# EAGLE library part TE0300-00 (library Eagle-library-TE0300-01)
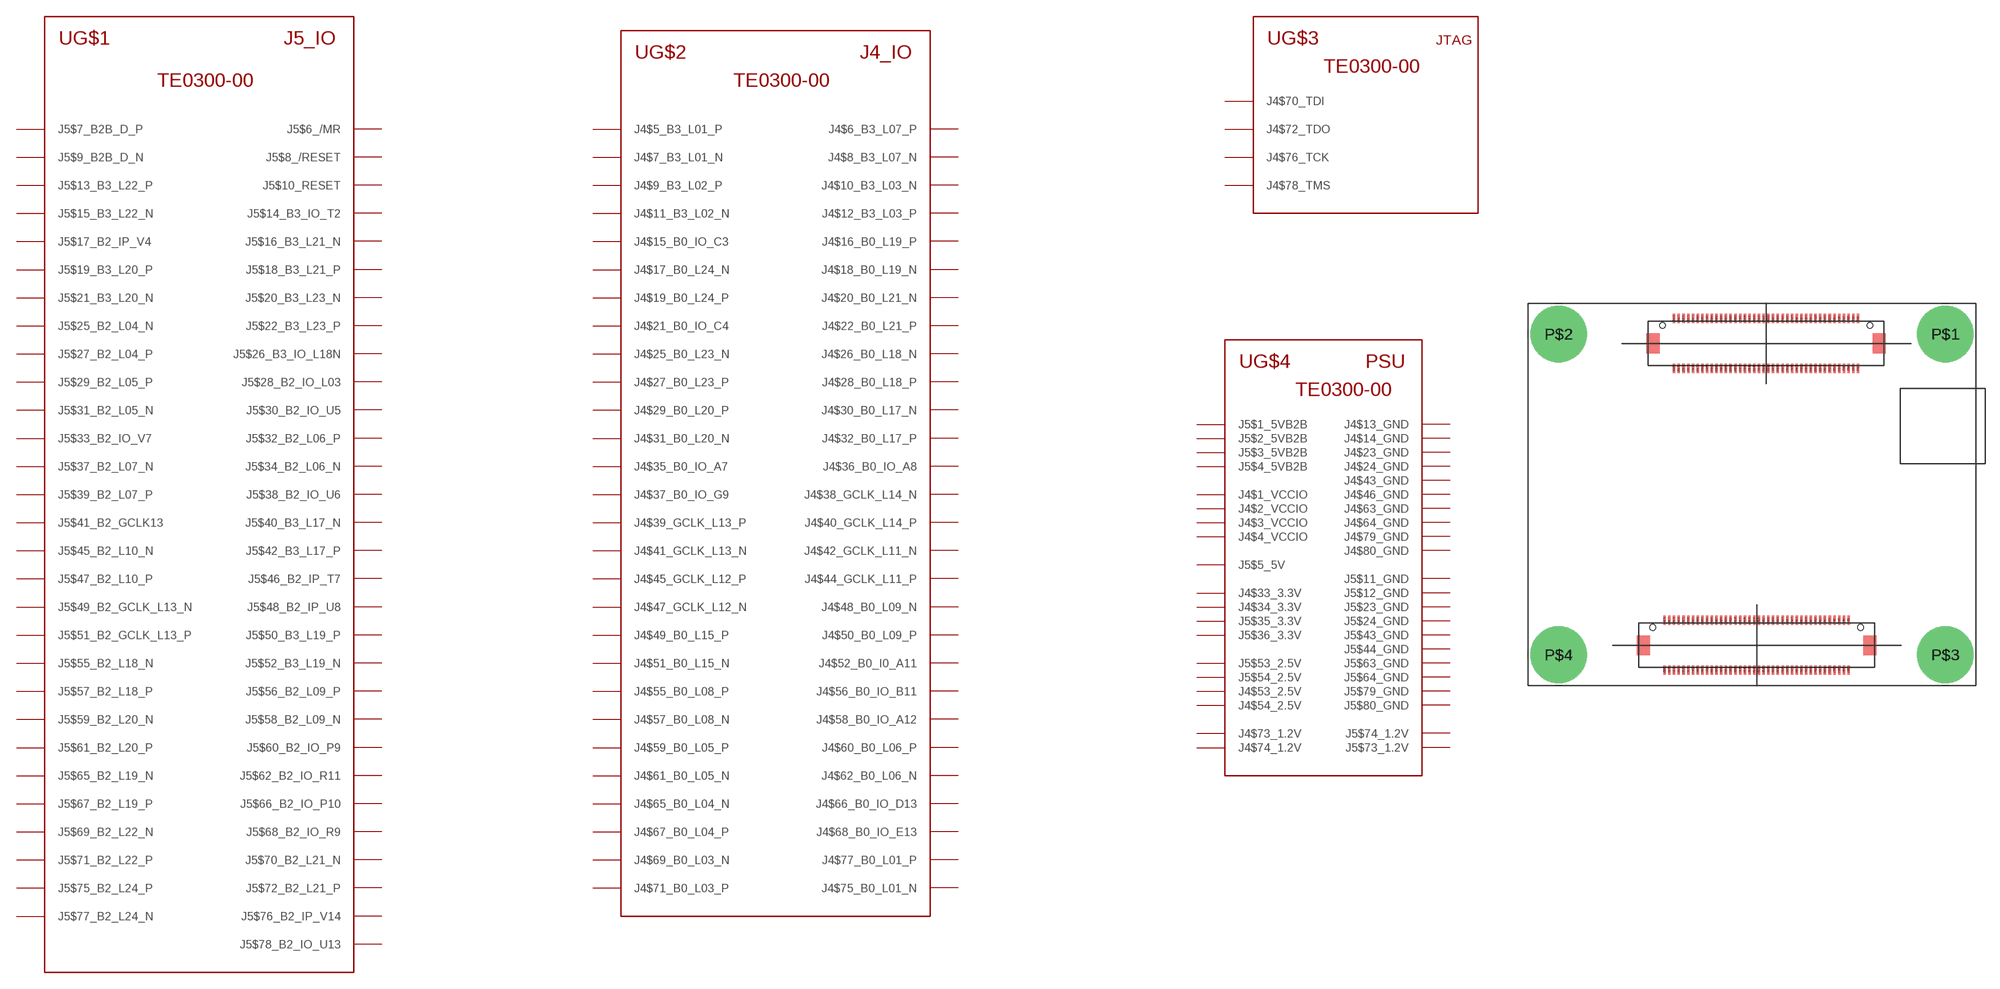
[diagram p0: symbol with the pads of INDUSTRIEMODUL; footprint INDUSTRIEMODUL]

Designator prefix -; gates G$1=INDUSTRIEMODULJ5 G$2=INDUSTRIEMOULJ4 G$3=INDUSTRIEMODUL_JTAG G$4=INDUSTRIEMODUL_PSU

## TE0300-00  [INDUSTRIEMODUL]
J4$1  G$4:J4$1_VCCIO  in
J4$2  G$4:J4$2_VCCIO  in
J4$3  G$4:J4$3_VCCIO  in
J4$4  G$4:J4$4_VCCIO  in
J4$5  G$2:J4$5_B3_L01_P
J4$6  G$2:J4$6_B3_L07_P
J4$7  G$2:J4$7_B3_L01_N
J4$8  G$2:J4$8_B3_L07_N
J4$9  G$2:J4$9_B3_L02_P
J4$10  G$2:J4$10_B3_L03_N
J4$11  G$2:J4$11_B3_L02_N
J4$12  G$2:J4$12_B3_L03_P
J4$13  G$4:J4$13_GND
J4$14  G$4:J4$14_GND
J4$15  G$2:J4$15_B0_IO_C3
J4$16  G$2:J4$16_B0_L19_P
J4$17  G$2:J4$17_B0_L24_N
J4$18  G$2:J4$18_B0_L19_N
J4$19  G$2:J4$19_B0_L24_P
J4$20  G$2:J4$20_B0_L21_N
J4$21  G$2:J4$21_B0_IO_C4
J4$22  G$2:J4$22_B0_L21_P
J4$23  G$4:J4$23_GND
J4$24  G$4:J4$24_GND
J4$25  G$2:J4$25_B0_L23_N
J4$26  G$2:J4$26_B0_L18_N
J4$27  G$2:J4$27_B0_L23_P
J4$28  G$2:J4$28_B0_L18_P
J4$29  G$2:J4$29_B0_L20_P
J4$30  G$2:J4$30_B0_L17_N
J4$31  G$2:J4$31_B0_L20_N
J4$32  G$2:J4$32_B0_L17_P
J4$33  G$4:J4$33_3.3V  out
J4$34  G$4:J4$34_3.3V  out
J4$35  G$2:J4$35_B0_IO_A7
J4$36  G$2:J4$36_B0_IO_A8
J4$37  G$2:J4$37_B0_IO_G9
J4$38  G$2:J4$38_GCLK_L14_N
J4$39  G$2:J4$39_GCLK_L13_P  in
J4$40  G$2:J4$40_GCLK_L14_P
J4$41  G$2:J4$41_GCLK_L13_N  in
J4$42  G$2:J4$42_GCLK_L11_N
J4$43  G$4:J4$43_GND
J4$44  G$2:J4$44_GCLK_L11_P
J4$45  G$2:J4$45_GCLK_L12_P
J4$46  G$4:J4$46_GND
J4$47  G$2:J4$47_GCLK_L12_N
J4$48  G$2:J4$48_B0_L09_N
J4$49  G$2:J4$49_B0_L15_P
J4$50  G$2:J4$50_B0_L09_P
J4$51  G$2:J4$51_B0_L15_N
J4$52  G$2:J4$52_B0_I0_A11
J4$53  G$4:J4$53_2.5V  out
J4$54  G$4:J4$54_2.5V  out
J4$55  G$2:J4$55_B0_L08_P
J4$56  G$2:J4$56_B0_IO_B11
J4$57  G$2:J4$57_B0_L08_N
J4$58  G$2:J4$58_B0_IO_A12
J4$59  G$2:J4$59_B0_L05_P
J4$60  G$2:J4$60_B0_L06_P
J4$61  G$2:J4$61_B0_L05_N
J4$62  G$2:J4$62_B0_L06_N
J4$63  G$4:J4$63_GND
J4$64  G$4:J4$64_GND
J4$65  G$2:J4$65_B0_L04_N
J4$66  G$2:J4$66_B0_IO_D13
J4$67  G$2:J4$67_B0_L04_P
J4$68  G$2:J4$68_B0_IO_E13
J4$69  G$2:J4$69_B0_L03_N
J4$70  G$3:J4$70_TDI  in
J4$71  G$2:J4$71_B0_L03_P
J4$72  G$3:J4$72_TDO  out
J4$73  G$4:J4$73_1.2V  out
J4$74  G$4:J4$74_1.2V  out
J4$75  G$2:J4$75_B0_L01_N
J4$76  G$3:J4$76_TCK  in
J4$77  G$2:J4$77_B0_L01_P
J4$78  G$3:J4$78_TMS  in
J4$79  G$4:J4$79_GND
J4$80  G$4:J4$80_GND
J5$1  G$4:J5$1_5VB2B  in
J5$2  G$4:J5$2_5VB2B  in
J5$3  G$4:J5$3_5VB2B  in
J5$4  G$4:J5$4_5VB2B  in
J5$5  G$4:J5$5_5V  out
J5$6  G$1:J5$6_/MR  in
J5$7  G$1:J5$7_B2B_D_P
J5$8  G$1:J5$8_/RESET  out
J5$9  G$1:J5$9_B2B_D_N
J5$10  G$1:J5$10_RESET  out
J5$11  G$4:J5$11_GND
J5$12  G$4:J5$12_GND
J5$13  G$1:J5$13_B3_L22_P
J5$14  G$1:J5$14_B3_IO_T2
J5$15  G$1:J5$15_B3_L22_N
J5$16  G$1:J5$16_B3_L21_N
J5$17  G$1:J5$17_B2_IP_V4  in
J5$18  G$1:J5$18_B3_L21_P
J5$19  G$1:J5$19_B3_L20_P
J5$20  G$1:J5$20_B3_L23_N
J5$21  G$1:J5$21_B3_L20_N
J5$22  G$1:J5$22_B3_L23_P
J5$23  G$4:J5$23_GND
J5$24  G$4:J5$24_GND
J5$25  G$1:J5$25_B2_L04_N
J5$26  G$1:J5$26_B3_IO_L18N
J5$27  G$1:J5$27_B2_L04_P
J5$28  G$1:J5$28_B2_IO_L03
J5$29  G$1:J5$29_B2_L05_P
J5$30  G$1:J5$30_B2_IO_U5
J5$31  G$1:J5$31_B2_L05_N
J5$32  G$1:J5$32_B2_L06_P
J5$33  G$1:J5$33_B2_IO_V7
J5$34  G$1:J5$34_B2_L06_N
J5$35  G$4:J5$35_3.3V  out
J5$36  G$4:J5$36_3.3V  out
J5$37  G$1:J5$37_B2_L07_N
J5$38  G$1:J5$38_B2_IO_U6
J5$39  G$1:J5$39_B2_L07_P
J5$40  G$1:J5$40_B3_L17_N
J5$41  G$1:J5$41_B2_GCLK13
J5$42  G$1:J5$42_B3_L17_P
J5$43  G$4:J5$43_GND
J5$44  G$4:J5$44_GND
J5$45  G$1:J5$45_B2_L10_N
J5$46  G$1:J5$46_B2_IP_T7  in
J5$47  G$1:J5$47_B2_L10_P
J5$48  G$1:J5$48_B2_IP_U8  in
J5$49  G$1:J5$49_B2_GCLK_L13_N
J5$50  G$1:J5$50_B3_L19_P
J5$51  G$1:J5$51_B2_GCLK_L13_P
J5$52  G$1:J5$52_B3_L19_N
J5$53  G$4:J5$53_2.5V  out
J5$54  G$4:J5$54_2.5V  out
J5$55  G$1:J5$55_B2_L18_N
J5$56  G$1:J5$56_B2_L09_P
J5$57  G$1:J5$57_B2_L18_P
J5$58  G$1:J5$58_B2_L09_N
J5$59  G$1:J5$59_B2_L20_N
J5$60  G$1:J5$60_B2_IO_P9
J5$61  G$1:J5$61_B2_L20_P
J5$62  G$1:J5$62_B2_IO_R11
J5$63  G$4:J5$63_GND
J5$64  G$4:J5$64_GND
J5$65  G$1:J5$65_B2_L19_N
J5$66  G$1:J5$66_B2_IO_P10
J5$67  G$1:J5$67_B2_L19_P
J5$68  G$1:J5$68_B2_IO_R9
J5$69  G$1:J5$69_B2_L22_N
J5$70  G$1:J5$70_B2_L21_N
J5$71  G$1:J5$71_B2_L22_P
J5$72  G$1:J5$72_B2_L21_P
J5$73  G$4:J5$73_1.2V  out
J5$74  G$4:J5$74_1.2V  out
J5$75  G$1:J5$75_B2_L24_P
J5$76  G$1:J5$76_B2_IP_V14  in
J5$77  G$1:J5$77_B2_L24_N
J5$78  G$1:J5$78_B2_IO_U13
J5$79  G$4:J5$79_GND
J5$80  G$4:J5$80_GND

## Footprint INDUSTRIEMODUL (pad centres in mm)
smd 0.25 x 1: J4$1 34,-33.6; J4$2 34,-38.9; J4$3 33.5,-33.6; J4$4 33.5,-38.9; J4$5 33,-33.6; J4$6 33,-38.9; J4$7 32.5,-33.6; J4$8 32.5,-38.9; J4$9 32,-33.6; J4$10 32,-38.9; J4$11 31.5,-33.6; J4$12 31.5,-38.9; J4$13 31,-33.6; J4$14 31,-38.9; J4$15 30.5,-33.6; J4$16 30.5,-38.9; J4$17 30,-33.6; J4$18 30,-38.9; J4$19 29.5,-33.6; J4$20 29.5,-38.9; J4$21 29,-33.6; J4$22 29,-38.9; J4$23 28.5,-33.6; J4$24 28.5,-38.9; J4$25 28,-33.6; J4$26 28,-38.9; J4$27 27.5,-33.6; J4$28 27.5,-38.9; J4$29 27,-33.6; J4$30 27,-38.9; J4$31 26.5,-33.6; J4$32 26.5,-38.9; J4$33 26,-33.6; J4$34 26,-38.9; J4$35 25.5,-33.6; J4$36 25.5,-38.9; J4$37 25,-33.6; J4$38 25,-38.9; J4$39 24.5,-33.6; J4$40 24.5,-38.9; J4$41 24,-33.6; J4$42 24,-38.9; J4$43 23.5,-33.6; J4$44 23.5,-38.9; J4$45 23,-33.6; J4$46 23,-38.9; J4$47 22.5,-33.6; J4$48 22.5,-38.9; J4$49 22,-33.6; J4$50 22,-38.9; J4$51 21.5,-33.6; J4$52 21.5,-38.9; J4$53 21,-33.6; J4$54 21,-38.9; J4$55 20.5,-33.6; J4$56 20.5,-38.9; J4$57 20,-33.6; J4$58 20,-38.9; J4$59 19.5,-33.6; J4$60 19.5,-38.9; J4$61 19,-33.6; J4$62 19,-38.9; J4$63 18.5,-33.6; J4$64 18.5,-38.9; J4$65 18,-33.6; J4$66 18,-38.9; J4$67 17.5,-33.6; J4$68 17.5,-38.9; J4$69 17,-33.6; J4$70 17,-38.9; J4$71 16.5,-33.6; J4$72 16.5,-38.9; J4$73 16,-33.6; J4$74 16,-38.9; J4$75 15.5,-33.6; J4$76 15.5,-38.9; J4$77 15,-33.6; J4$78 15,-38.9; J4$79 14.5,-33.6; J4$80 14.5,-38.9; J5$1 35,-1.6; J5$2 35,-6.9; J5$3 34.5,-1.6; J5$4 34.5,-6.9; J5$5 34,-1.6; J5$6 34,-6.9; J5$7 33.5,-1.6; J5$8 33.5,-6.9; J5$9 33,-1.6; J5$10 33,-6.9; J5$11 32.5,-1.6; J5$12 32.5,-6.9; J5$13 32,-1.6; J5$14 32,-6.9; J5$15 31.5,-1.6; J5$16 31.5,-6.9; J5$17 31,-1.6; J5$18 31,-6.9; J5$19 30.5,-1.6; J5$20 30.5,-6.9; J5$21 30,-1.6; J5$22 30,-6.9; J5$23 29.5,-1.6; J5$24 29.5,-6.9; J5$25 29,-1.6; J5$26 29,-6.9; J5$27 28.5,-1.6; J5$28 28.5,-6.9; J5$29 28,-1.6; J5$30 28,-6.9; J5$31 27.5,-1.6; J5$32 27.5,-6.9; J5$33 27,-1.6; J5$34 27,-6.9; J5$35 26.5,-1.6; J5$36 26.5,-6.9; J5$37 26,-1.6; J5$38 26,-6.9; J5$39 25.5,-1.6; J5$40 25.5,-6.9; J5$41 25,-1.6; J5$42 25,-6.9; J5$43 24.5,-1.6; J5$44 24.5,-6.9; J5$45 24,-1.6; J5$46 24,-6.9; J5$47 23.5,-1.6; J5$48 23.5,-6.9; J5$49 23,-1.6; J5$50 23,-6.9; J5$51 22.5,-1.6; J5$52 22.5,-6.9; J5$53 22,-1.6; J5$54 22,-6.9; J5$55 21.5,-1.6; J5$56 21.5,-6.9; J5$57 21,-1.6; J5$58 21,-6.9; J5$59 20.5,-1.6; J5$60 20.5,-6.9; J5$61 20,-1.6; J5$62 20,-6.9; J5$63 19.5,-1.6; J5$64 19.5,-6.9; J5$65 19,-1.6; J5$66 19,-6.9; J5$67 18.5,-1.6; J5$68 18.5,-6.9; J5$69 18,-1.6; J5$70 18,-6.9; J5$71 17.5,-1.6; J5$72 17.5,-6.9; J5$73 17,-1.6; J5$74 17,-6.9; J5$75 16.5,-1.6; J5$76 16.5,-6.9; J5$77 16,-1.6; J5$78 16,-6.9; J5$79 15.5,-1.6; J5$80 15.5,-6.9
drill 2.8 pad 6 round: P$1 44.25,-3.25
drill 2.72 pad 6 round: P$2 3.25,-3.25; P$3 44.25,-37.25; P$4 3.25,-37.25
hole 0.6 at 35.25,-34.35
hole 0.6 at 13.25,-34.35
hole 0.6 at 36.25,-2.35
hole 0.6 at 14.25,-2.35